# EAGLE library part ATTINY412-SSF (library ATTINY412-SSF)
8-bit Microcontrollers - MCU 20MHz, 4KB, SOIC8, Ind 125C, Green, Tube Source: Datasheet <https://componentsearchengine.com/Datasheets/1/ATTINY412-SSF.pdf>
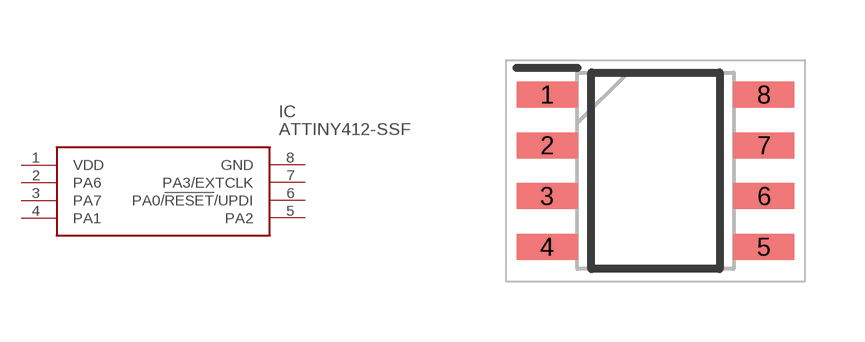
[diagram p0: symbol with the pads of SOIC127P600X175-8N; footprint SOIC127P600X175-8N]

Designator prefix IC

## ATTINY412-SSF (Arrow_Part_Number: ATTINY412-SSF; Arrow_Price-Stock: https://www.arrow.com/en/products/attiny412-ssf/microchip-technology?region=nac; Description: 8-bit Microcontrollers - MCU 20MHz, 4KB, SOIC8, Ind 125C, Green, Tube; Height: 1.75mm; Manufacturer_Name: Microchip; Manufacturer_Part_Number: ATTINY412-SSF; Mouser_Part_Number: 579-ATTINY412-SSF; Mouser_Price-Stock: https://www.mouser.co.uk/ProductDetail/Microchip-Technology/ATTINY412-SSF?qs=3HJ2avRr9PLjr%252BAvU6bmFQ%3D%3D)  [SOIC127P600X175-8N]
1  VDD
2  PA6
3  PA7
4  PA1
5  PA2
6  PA0/!RESET!/UPDI
7  PA3/EXTCLK
8  GND

## Footprint SOIC127P600X175-8N (pad centres in mm)
8-Pin SOIC 12
smd 1.525 x 0.65: 1 -2.712,1.905; 2 -2.712,0.635; 3 -2.712,-0.635; 4 -2.712,-1.905; 5 2.712,-1.905; 6 2.712,-0.635; 7 2.712,0.635; 8 2.712,1.905